# Altium footprint library CN_MKDSN_1,5_2.PcbLib: 1 footprints
Each footprint in its own frame and in the unit in brackets; x right, y up, seen from the top. Pads: shape width x height; smd on the part's side, far side on the other; paste and mask are expansions set on the pad; w line width, h text height; cw(c..) or ccw(c..) is an arc to the next point about the centre after c.
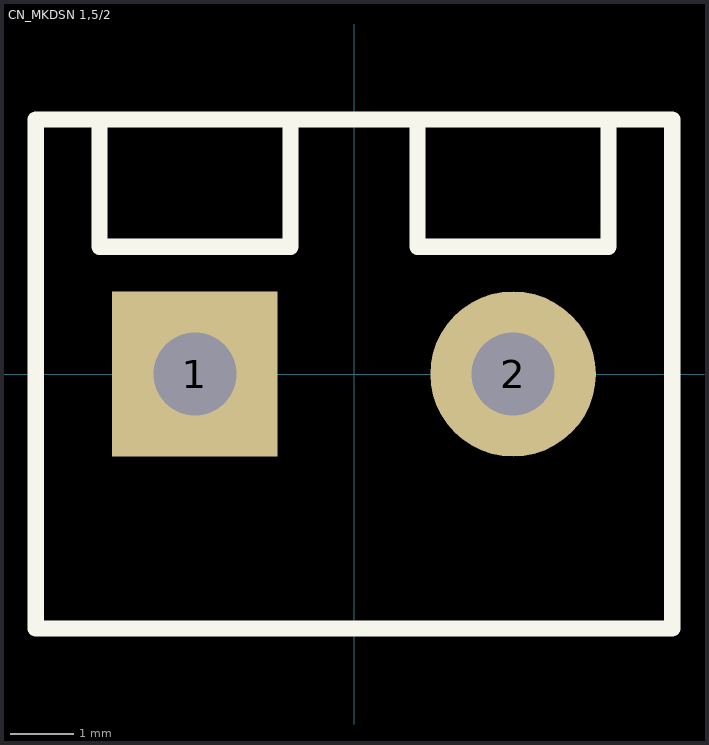
[diagram p0: the footprint, top view; thin cyan lines are the x and y axes]

## CN_MKDSN 1,5/2 [mm] "Printed screw termination blocks"
pads (2):
  rect 2.6x2.6 hole 1.3: 1(-2.5,0)
  round 2.6 hole 1.3: 2(2.5,0)
Top Overlay:
  lines w0.254: -4,4 -4,2 -1,2 -1,4 ; 1,4 1,2 4,2 4,4 ; -5,-4 5,-4 5,4 -5,4 -5,-4
3D body: height 10, standoff -3.5, extent -5,-4.1 5.57,4.05